# Altium schematic symbol library BPW34F.SchLib: 1 symbol
Pins are listed as number, name and electrical type; pins without a type are passive.

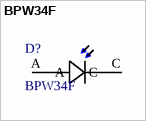
[diagram p0: symbol BPW34F]

## BPW34F
designator D?
/ Photodiode PIN Chip 950nm 0.59A/W Sensitivity Automotive 2-Pin PDIL /; MF: OSRAM Opto; Price: None; Package: DIP-2 OSRAM; MP: BPW34F; SnapEDA_Link: https://www.snapeda.com/parts/BPW34F/OSRAM%20Opto%20Semiconductors%20Inc./view-part/?ref=snap; Availability: Unavailable; Value: *
footprint *PHODET_BPW34F_BPW34F(Primary)
pins: A, C